# EAGLE library part HEADER8 (library usevolt)
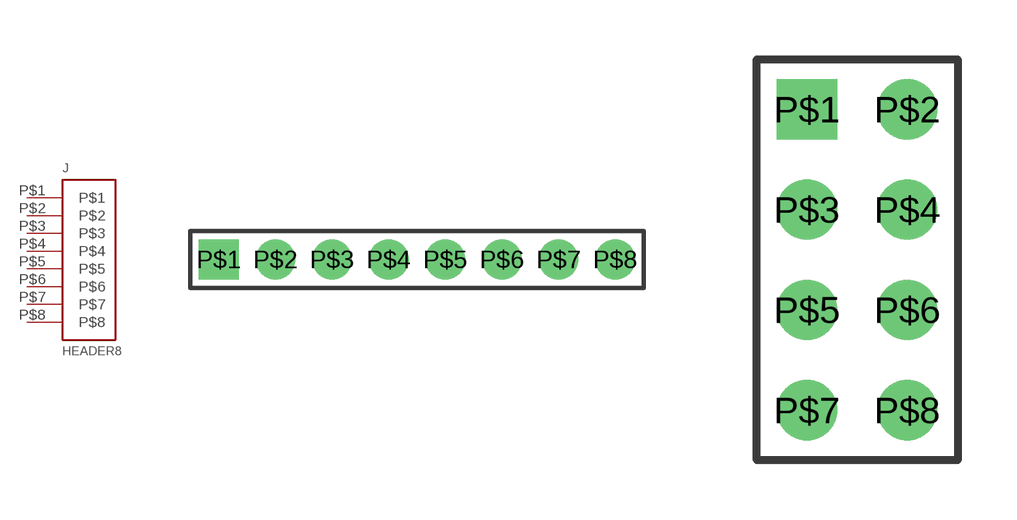
[diagram p8: symbol with the pads of HEADER8_1; footprints HEADER8_1, HEADER_4_2]

Designator prefix J

## HEADER88_1  [HEADER8_1]
P$1  P$1
P$2  P$2
P$3  P$3
P$4  P$4
P$5  P$5
P$6  P$6
P$7  P$7
P$8  P$8

## HEADER84_2  [HEADER_4_2]
Pads as for HEADER8_1

## Footprint HEADER8_1 (pad centres in mm)
drill 1 pad 1.778 square: P$1 -8.89,0
drill 1 pad 1.778: P$2 -6.35,0; P$3 -3.81,0; P$4 -1.27,0; P$5 1.27,0; P$6 3.81,0; P$7 6.35,0; P$8 8.89,0

## Footprint HEADER_4_2 (pad centres in mm)
drill 1.016 square: P$1 0,0
drill 1.016: P$2 2.54,0; P$3 0,-2.54; P$4 2.54,-2.54; P$5 0,-5.08; P$6 2.54,-5.08; P$7 0,-7.62; P$8 2.54,-7.62